# EAGLE library part ADS1211E (library texas1)
24-Bit ANALOG-TO-DIGITAL CONVERTER Source: http://focus.ti.com/lit/ds/symlink/ads1210.pdf
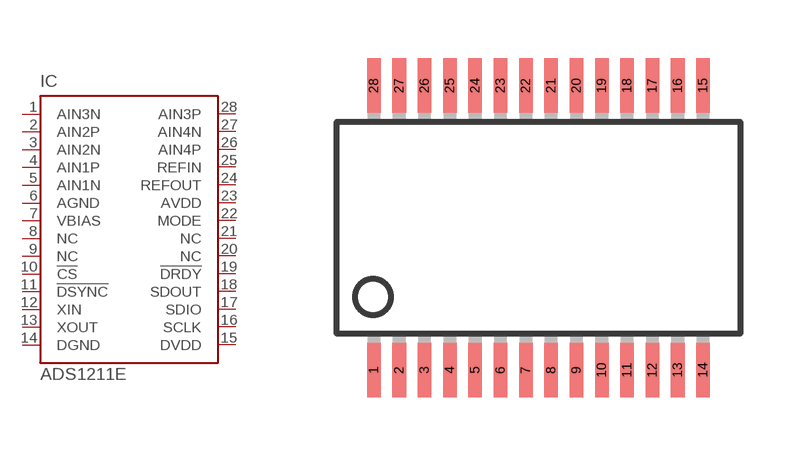
[diagram p83: symbol with the pads of DB_R-PDSO-G28; footprint DB_R-PDSO-G28]

Designator prefix IC

## ADS1211E (MF: TEXAS INSTRUMENT CONNECTORS; MPN: ADS1211E; OC_FARNELL: unknown; OC_NEWARK: 74C6976)  [DB_R-PDSO-G28]
1  AIN3N  in
2  AIN2P  in
3  AIN2N  in
4  AIN1P  in
5  AIN1N  in
6  AGND  pwr
7  VBIAS  in
8  NC  nc
9  NC  nc
10  !CS  in
11  !DSYNC  in
12  XIN  in
13  XOUT  out
14  DGND  pwr
15  DVDD  pwr
16  SCLK
17  SDIO
18  SDOUT  out
19  !DRDY  out
20  NC  nc
21  NC  nc
22  MODE  in
23  AVDD  pwr
24  REFOUT  out
25  REFIN  in
26  AIN4P  in
27  AIN4N  in
28  AIN3P  in

## Footprint DB_R-PDSO-G28 (pad centres in mm)
DB (R-PDSO-G28) Source: http://focus.ti.com/lit/ds/symlink/ads1210.pdf
smd 0.348 x 1.397: 1 -4.225,-3.656; 2 -3.575,-3.656; 3 -2.925,-3.656; 4 -2.275,-3.656; 5 -1.625,-3.656; 6 -0.975,-3.656; 7 -0.325,-3.656; 8 0.325,-3.656; 9 0.975,-3.656; 10 1.625,-3.656; 11 2.275,-3.656; 12 2.925,-3.656; 13 3.575,-3.656; 14 4.225,-3.656; 15 4.225,3.656; 16 3.575,3.656; 17 2.925,3.656; 18 2.275,3.656; 19 1.625,3.656; 20 0.975,3.656; 21 0.325,3.656; 22 -0.325,3.656; 23 -0.975,3.656; 24 -1.625,3.656; 25 -2.275,3.656; 26 -2.925,3.656; 27 -3.575,3.656; 28 -4.225,3.656